# EAGLE library part 1508АС025 (library microwave)
АЕНВ.431230.245 ТУ 1508АС025 - Микросхема синтезатора частот с дробным коэффициентом деления и встроенным генератором, управляемым напряжением Производитель: АО "ПКК Миландр", г. Москва, Зеленоград.
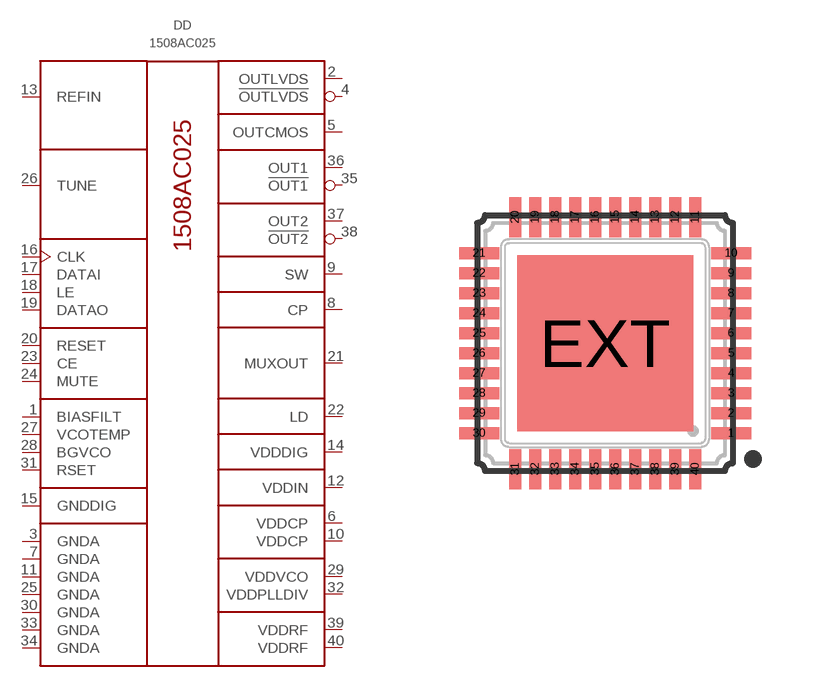
[diagram p21: symbol with the pads of 5156.40-1НЗК; footprint 5156.40-1НЗК]

Designator prefix DD

## 1508АС025  [5156.40-1НЗК]
1  BIASFILT  pas
2  OUTLVDS  out
3  GNDA  pwr
4  !OUTLVDS  out
5  OUTCMOS  out
6  VDDCP  pwr
7  GNDA  pwr
8  CP  out
9  SW  out
10  VDDCP  pwr
11  GNDA  pwr
12  VDDIN  pwr
13  REFIN  in
14  VDDDIG  pwr
15  GNDDIG  pwr
16  CLK  in
17  DATAI  in
18  LE  in
19  DATAO  out
20  RESET  in
21  MUXOUT  out
22  LD  out
23  CE  in
24  MUTE  in
25  GNDA  pwr
26  TUNE  in
27  VCOTEMP  pas
28  BGVCO  pas
29  VDDVCO  pwr
30  GNDA  pwr
31  RSET  pas
32  VDDPLLDIV  pwr
33  GNDA  pwr
34  GNDA  pwr
35  !OUT1  out
36  OUT1  out
37  OUT2  out
38  !OUT2  out
39  VDDRF  pwr
40  VDDRF  pwr

## Footprint 5156.40-1НЗК (pad centres in mm)
smd 1 x 0.3: 1 3.15,-2.25; 2 3.15,-1.75; 3 3.15,-1.25; 4 3.15,-0.75; 5 3.15,-0.25; 6 3.15,0.25; 7 3.15,0.75; 8 3.15,1.25; 9 3.15,1.75; 10 3.15,2.25; 21 -3.15,2.25; 22 -3.15,1.75; 23 -3.15,1.25; 24 -3.15,0.75; 25 -3.15,0.25; 26 -3.15,-0.25; 27 -3.15,-0.75; 28 -3.15,-1.25; 29 -3.15,-1.75; 30 -3.15,-2.25
smd 0.3 x 1: 11 2.25,3.15; 12 1.75,3.15; 13 1.25,3.15; 14 0.75,3.15; 15 0.25,3.15; 16 -0.25,3.15; 17 -0.75,3.15; 18 -1.25,3.15; 19 -1.75,3.15; 20 -2.25,3.15; 31 -2.25,-3.15; 32 -1.75,-3.15; 33 -1.25,-3.15; 34 -0.75,-3.15; 35 -0.25,-3.15; 36 0.25,-3.15; 37 0.75,-3.15; 38 1.25,-3.15; 39 1.75,-3.15; 40 2.25,-3.15
smd 4.4 x 4.4: EXT 0,0